# Altium footprint library lll.PcbLib: 2 footprints
Each footprint in its own frame and in the unit in brackets; x right, y up, seen from the top. Pads: shape width x height; smd on the part's side, far side on the other; paste and mask are expansions set on the pad; w line width, h text height; cw(c..) or ccw(c..) is an arc to the next point about the centre after c.
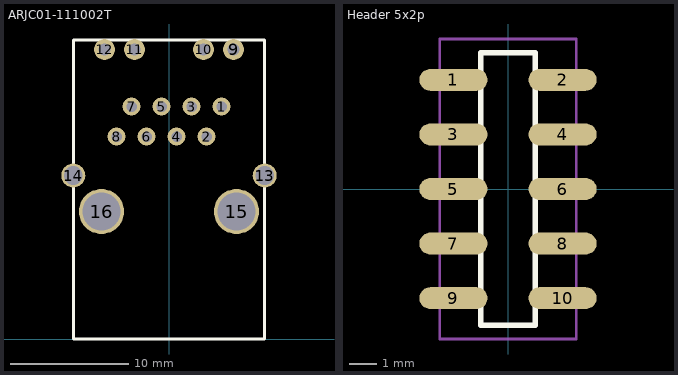
[diagram p0: the footprints below, top view; thin cyan lines are the x and y axes]

## ARJC01-111002T [mil]
pads (16):
  round 60 hole 35: 1(175,775) 2(125,675) 3(75,775) 4(25,675) 5(-25,775) 6(-75,675) 7(-125,775) 8(-175,675)
  round 70 hole 41.34: 9(215,965) 10(115,965) 11(-115,965) 12(-215,965)
  round 80 hole 62.99: 13(319,545) 14(-319,545)
  round 150 hole 125.98: 15(225,425) 16(-225,425)
Top Overlay:
  lines w10: -319,0 319,0 319,996 -319,996 -319,0

## Header 5x2p [mm] "TSSOP, 40-Leads, Body 9.7x4.4mm, Pitch 0.65mm"
height 2
pads (10):
  oval 2.5x0.8 smd: 1(-2,4) 2(2,4) 3(-2,2) 4(2,2) 5(-2,0) 6(2,0) 7(-2,-2) 8(2,-2) 9(-2,-4) 10(2,-4)
Top Overlay:
  lines w0.2: -1,-5 1,-5 1,5 -1,5 -1,-5
Mechanical 15:
  lines w0.1: -2.5,-5.5 -2.5,5.5 2.5,5.5 2.5,-5.5 -2.5,-5.5